# Altium schematic symbol library Voltage Regulator_LT1026_1.Schlib: 1 symbol
Pins are listed as number, name and electrical type; pins without a type are passive.

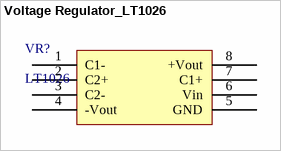
[diagram p0: symbol Voltage Regulator_LT1026]

## Voltage Regulator_LT1026
designator VR?, comment LT1026
footprint SOIC-8 (SOIC, 8-Leads, Body 4.90x3.90mm, Pitch 1.27mm, IPC Medium Density)
pins: 1 C1-, 2 C2+, 3 C2-, 4 -Vout, 5 GND, 6 Vin, 7 C1+, 8 +Vout